# Altium schematic symbol library E-Nose&Alphasense.SCHLIB: 32 symbols
Pins are listed as number, name and electrical type; pins without a type are passive.

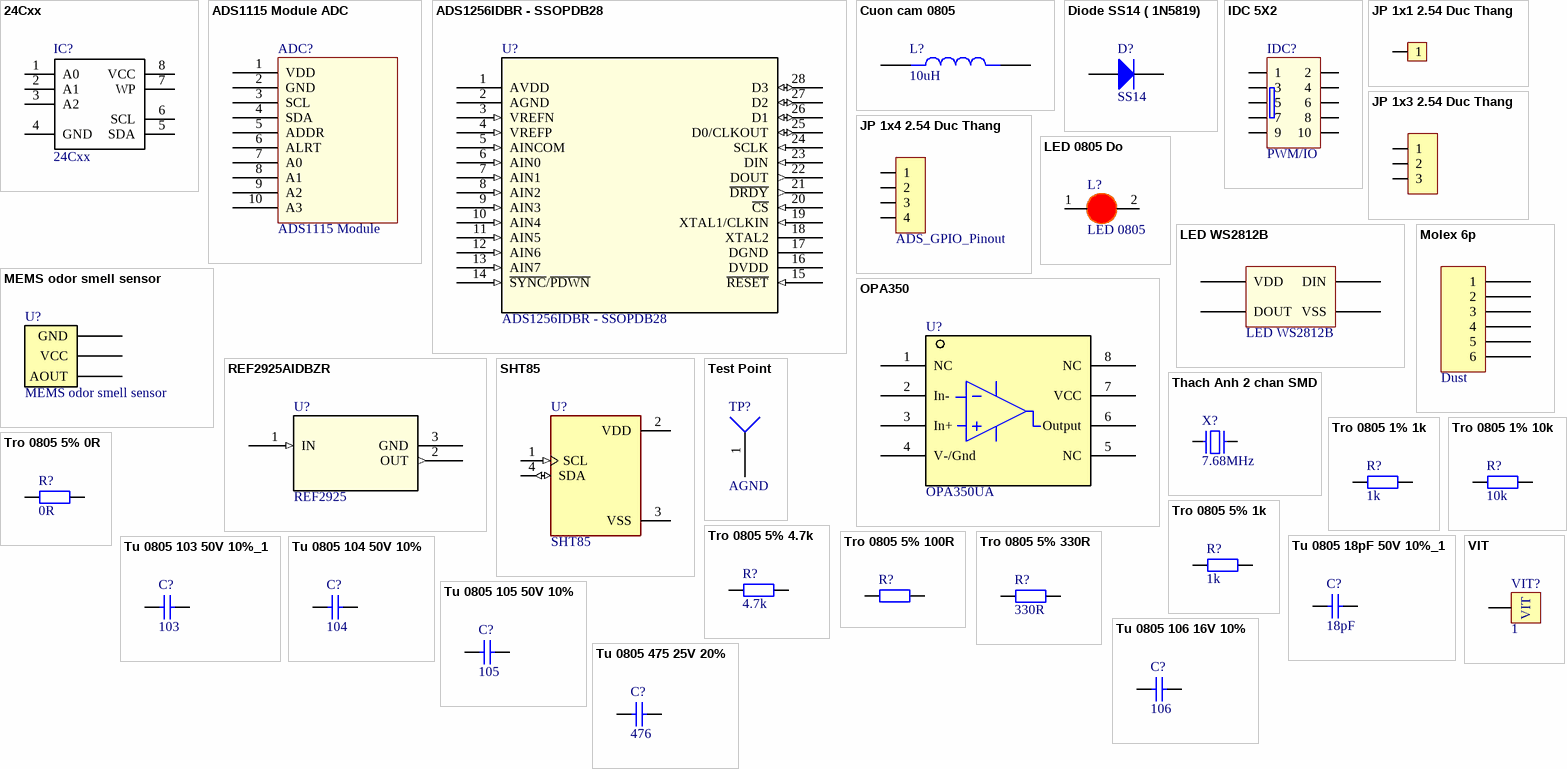
[diagram p0: symbols 24Cxx to VIT]

## 24Cxx
designator IC?
Standard 2-Wire Bus Interface Serial EEPROM; Value: DIP 8; Value: 24Cxx; Copyright by: VanDungEvn
footprint DIP8
footprint SO8
footprint TSSOP8 (TSSOP, 8-Leads, Body 3.00x4.40mm, Pitch 0.65mm, IPC Medium Density)
pins: 1 A0, 2 A1, 3 A2, 4 GND, 5 SDA, 6 SCL, 7 WP, 8 VCC

## ADS1115 Module ADC
designator ADC?, comment ADS1115 Module
footprint ADS1115 (ADS1115 Module Footprint)
pins: 1 VDD, 2 GND, 3 SCL, 4 SDA, 5 ADDR, 6 ALRT, 7 A0, 8 A1, 9 A2, 10 A3

## ADS1256IDBR - SSOPDB28
designator U?
Very Low Noise, 24-Bit Analog-to-Digital Converter; Mfr_Name: Texas Instruments; RefDes: RefDes; Type: Type
footprint SSOPDB28
pins: 1 AVDD (power), 2 AGND (power), 3 VREFN (in), 4 VREFP (in), 5 AINCOM (in), 6 AIN0 (in), 7 AIN1 (in), 8 AIN2 (in), 9 AIN3 (in), 10 AIN4 (in), 11 AIN5 (in), 12 AIN6 (in), 13 AIN7 (in), 14 ~{SYNC}/~{PDWN} (in), 15 ~{RESET} (in), 16 DVDD (power), 17 DGND (power), 18 XTAL2, 19 XTAL1/CLKIN (in), 20 ~{CS} (in), 21 ~{DRDY} (out), 22 DOUT (out), 23 DIN (in), 24 SCLK (in), 25 D0/CLKOUT (io), 26 D1 (io), 27 D2 (io), 28 D3 (io)

## Cuon cam 0805
designator L?, comment 10uH
1.5ÂµH Unshielded Multilayer Inductor 700mA 220mOhm 0805 (2012 Metric); MF: Laird; MP: CPI0805G1R5R-10; Value: *; Price: None; Package: 0805 Laird; Availability: Not in stock; Check_prices: https://www.snapeda.com/parts/CPI0805G1R5R-10/Laird/view-part/5881135/?ref=eda; SnapEDA_Link: https://www.snapeda.com/parts/CPI0805G1R5R-10/Laird/view-part/5881135/?ref=snap
footprint Inductor 0805
pins: 1, 2

## Diode SS14 ( 1N5819)
designator D?, comment SS14
Dán; Ma_Hang: MH002211; Don_Vi: Con; Ten_Linh_Kien: Diode SS14 DO214 Schottky 1A 40V ( 1N5819 DO214); Chung_Loai: Dán; Ghi_Chu: *; Kieu_Chan: *
footprint DIODE SMA (SMA)
pins: 1 A, 2 K

## IDC 5X2
designator IDC?, comment PWM/IO
Value: Header 5x2
footprint IDC10-BH
footprint IDC10
footprint IDC10-S
pins: 1, 2, 3, 4, 5, 6, 7, 8, 9, 10

## JP 1x1 2.54 Duc Thang
designator JP?, comment JP 1x1 2.54  (value not drawn)
Cắm; Ten_Linh_Kien: Jump Đơn Đực 2.54MM 1x40P Thẳng 11MM; Don_Vi: Con; Ma_Hang: MH000903; Ghi_Chu: *; Kieu_Chan: *; Chung_Loai: Cắm
footprint JP 1x1 DT
pins: 1

## JP 1x3 2.54 Duc Thang
designator JP?, comment JP 1x3 2.54  (value not drawn)
Cắm; Ten_Linh_Kien: Jump Đơn Đực 2.54MM 1x40P Thẳng 11MM; Don_Vi: Con; Ma_Hang: MH000903; Ghi_Chu: *; Kieu_Chan: *; Chung_Loai: Cắm
footprint JP 1x3 DT
pins: 1, 2, 3

## JP 1x4 2.54 Duc Thang
designator JP?, comment ADS_GPIO_Pinout
Cắm; Ten_Linh_Kien: Jump Đơn Đực 2.54MM 1x40P Thẳng 11MM; Don_Vi: Con; Ma_Hang: MH000903; Ghi_Chu: *; Kieu_Chan: *; Chung_Loai: Cắm
footprint JP 1x4 DT (4 pins, 1 row, straight, gold plating)
pins: 1, 2, 3, 4

## LED 0805 Do
designator L?, comment LED 0805
Dán; Don_Vi: Con; Ma_Hang: MH000897; Ten_Linh_Kien: LED 0805 Màu Đỏ (Red); Ghi_Chu: *; Kieu_Chan: *; Chung_Loai: Dán
footprint LED-0805-Red
pins: 1 A, 2 K

## LED WS2812B
designator LED WS2812B?
footprint LED-WS2812B
pins: 1-VDD VDD, 2-DOUT DOUT, 3-GND VSS, 4-DIN DIN

## MEMS odor smell sensor
designator U?
DFRobot MEMS Odor Smell Gas Detection Sensor
footprint MEMS_odor_sensor (DFRobot)
pins: 1 GND, 2 VCC, 3 AOUT

## Molex 6p
designator H?, comment Dust
footprint Molex 6p
pins: 1, 2, 3, 4, 5, 6

## OPA350
designator U?, comment OPA350UA
Op-amp OPA350
footprint SOIC 8_127P599X175
pins: 1 NC, 2 In-, 3 In+, 4 V-/Gnd, 5 NC, 6 Output, 7 VCC, 8 NC

## REF2925AIDBZR
designator U?, comment REF2925
SOT-23 CMOS 2.5V Voltage Reference; Mfr_Name: Texas Instruments; RefDes: RefDes; Type: Type
footprint SOT23-DBZ3 (CASE: SOT23)
pins: 1 IN (in), 2 OUT (out), 3 GND (power)

## SHT85
designator U?
Humidity Temperature Sensor 0 ~ 100% RH Digital Â±1.5% RH 8s Through Hole; MF: Sensirion AG; SnapEDA_Link: https://www.snapeda.com/parts/SHT85/Sensirion%20AG/view-part/3601545/?ref=snap; Value: *; Digi-Key_Part_Number: 1649-1110-ND; Digi-Key_Purchase_URL: https://www.digikey.com/product-detail/en/sensirion-ag/SHT85/1649-1110-ND/9666378?utm_source=snapeda&utm_medium=aggregator&utm_campaign=symbol; MP: SHT85; Package: SIP-4 Sensirion AG
footprint XDCR_SHT85
pins: 1 SCL (in), 2 VDD (power), 3 VSS (power), 4 SDA (io)

## Test Point
designator TP?, comment AGND
Test Point; Ports: 1; Positions/Loaded: Port1 - 4/2; PerformanceCategory: 3; PCB_Mounting: Thru-Hole; PCB_Thickness: 0.125"; DrillSize: Nominal, Rounded to nearest 0.05mm; PCB_Layout: Complies with Manufacturer's Recommendation.; Published: 25-Jun-2002; DatasheetDocument: 20-Nov-2001; PackageDocument: 20-Nov-2001; PackageReference: 42878-4410; Publisher: Altium Limited; ComponentLink1Description: Manufacturer Link; ComponentLink1URL: http://www.molex.com/; ComponentLink2Description: Datasheet; ComponentLink2URL: http://www.molex.com/cmc_upload/common_files/1212003_42878catalogpage.pdf
footprint TEST_POINT_1.5X1.5MM
footprint pad_1.65x1.65_hole_1mm
footprint pad_1.2x1.2_hole_0.6mm
footprint TEST_POINT_1.0X1.0MM
pins: 1

## Thach Anh 2 chan SMD
designator X?, comment 7.68MHz
Crystal For all Crystal 2pin.; Value: 4Mhz
footprint Thach Anh 2 chan SMD (SMD Crystal HC49/US-SM package)
pins: 1, 2

## Tro 0805 1% 1k
designator R?, comment 1k
Dán; Don_Vi: Con; So_Chan: 2; Ten_Linh_Kien: Trở 0805 1% 1k; Ma_Hang: MH005468; Chung_Loai: Dán; Kieu_Chan: *
footprint tro smd 0805
pins: 1, 2

## Tro 0805 1% 10k
designator R?, comment 10k
Dán; Don_Vi: Con; So_Chan: 2; Ten_Linh_Kien: Trở 0805 1% 10k; Ma_Hang: MH005473; Chung_Loai: Dán; Kieu_Chan: *
footprint tro smd 0805
pins: 1, 2

## Tro 0805 5% 0R
designator R?, comment 0R
Dán; Don_Vi: Con; So_Chan: 2; Ten_Linh_Kien: Trở 0805 5% 0R; Ma_Hang: MH005230; Chung_Loai: Dán; Kieu_Chan: *
footprint tro smd 0805
pins: 1, 2

## Tro 0805 5% 1k
designator R?, comment 1k
Dán; Don_Vi: Con; So_Chan: 2; Ten_Linh_Kien: Trở 0805 5% 1k; Ma_Hang: MH005234; Chung_Loai: Dán; Kieu_Chan: *
footprint tro smd 0805
pins: 1, 2

## Tro 0805 5% 4.7k
designator R?, comment 4.7k
Dán; Don_Vi: Con; So_Chan: 2; Ten_Linh_Kien: Trở 0805 5% 4.7k; Ma_Hang: MH005307; Chung_Loai: Dán; Kieu_Chan: *
footprint tro smd 0805
pins: 1, 2

## Tro 0805 5% 100R
designator R?, comment 100R  (value not drawn)
Dán; Don_Vi: Con; So_Chan: 2; Ten_Linh_Kien: Trở 0805 5% 100R; Ma_Hang: MH005251; Chung_Loai: Dán; Kieu_Chan: *
footprint tro smd 0805
pins: 1, 2

## Tro 0805 5% 330R
designator R?, comment 330R
Dán; Don_Vi: Con; So_Chan: 2; Ten_Linh_Kien: Trở 0805 5% 330R; Ma_Hang: MH005337; Chung_Loai: Dán; Kieu_Chan: *
footprint Tro SMD 0805
pins: 1, 2

## Tu 0805 18pF 50V 10%_1
designator C?, comment 18pF
Dán; Don_Vi: Con; Ten_Linh_Kien: Tụ 0805 20P 10% 50V; So_Chan: 2; Ma_Hang: MH004558; Chung_Loai: Dán; Kieu_Chan: *
footprint tu 0805 (Compoment SMD 80x50mil)
pins: 1, 2

## Tu 0805 103 50V 10%_1
designator C?, comment 103
Dán; Don_Vi: Con; So_Chan: 2; Ten_Linh_Kien: Tụ 0805 102-1nF 10% 50V; Ma_Hang: MH004549; Chung_Loai: Dán; Kieu_Chan: *
footprint tu 0805 (Compoment SMD 80x50mil)
pins: 1, 2

## Tu 0805 104 50V 10%
designator C?, comment 104
Dán; Don_Vi: Con; So_Chan: 2; Ten_Linh_Kien: Tụ 0805 104-100nF 10% 50V; Ma_Hang: MH004551; Chung_Loai: Dán; Kieu_Chan: *
footprint tu 0805 (Compoment SMD 80x50mil)
pins: 1, 2

## Tu 0805 105 50V 10%
designator C?, comment 105
Dán; Don_Vi: Con; So_Chan: 2; Ten_Linh_Kien: Tụ 0805 105-1uF 10% 50V; Ma_Hang: MH004552; Chung_Loai: Dán; Kieu_Chan: *
footprint tu 0805 (Compoment SMD 80x50mil)
pins: 1, 2

## Tu 0805 106 16V 10%
designator C?, comment 106
Dán; Ten_Linh_Kien: Tụ 0805 106-10uF 10% 16V; So_Chan: 2; Don_Vi: Con; Ma_Hang: MH004553; Chung_Loai: Dán; Kieu_Chan: *
footprint tu 0805 (Compoment SMD 80x50mil)
pins: 1, 2

## Tu 0805 475 25V 20%
designator C?, comment 476
Dán; Don_Vi: Con; So_Chan: 2; Ten_Linh_Kien: Tụ 0805 475-4.7uF 20% 25V; Ma_Hang: MH004276; Chung_Loai: Dán; Kieu_Chan: *
footprint tu 0805 (Compoment SMD 80x50mil)
pins: 1, 2

## VIT
designator VIT?, comment 1
Vit xuyen lo; Chung_Loai: Cắm; Ma_Hang: MH002051; Ten_Linh_Kien: CON 2 KF142R 5.08MM; Don_Vi: Con; Ghi_Chu: *; Kieu_Chan: *
footprint Screw Hole 4mm
footprint Screw 3 small (Hole 3mm, outline 5mm)
footprint Screw 3.0 (Hole 3.2mm outline 8mm)
footprint Screw 3.0 v2 (Hole 3.2mm outline 8mm)
footprint Screw 3.7mm
footprint Screw octagon 3.81mm (Screw hole 3.81mm)
pins: 1